# Altium footprint library VESC_6.PcbLib: 20 footprints (part 1 of 2)
Each footprint in its own frame and in the unit in brackets; x right, y up, seen from the top. Pads: shape width x height; smd on the part's side, far side on the other; paste and mask are expansions set on the pad; w line width, h text height; cw(c..) or ccw(c..) is an arc to the next point about the centre after c.
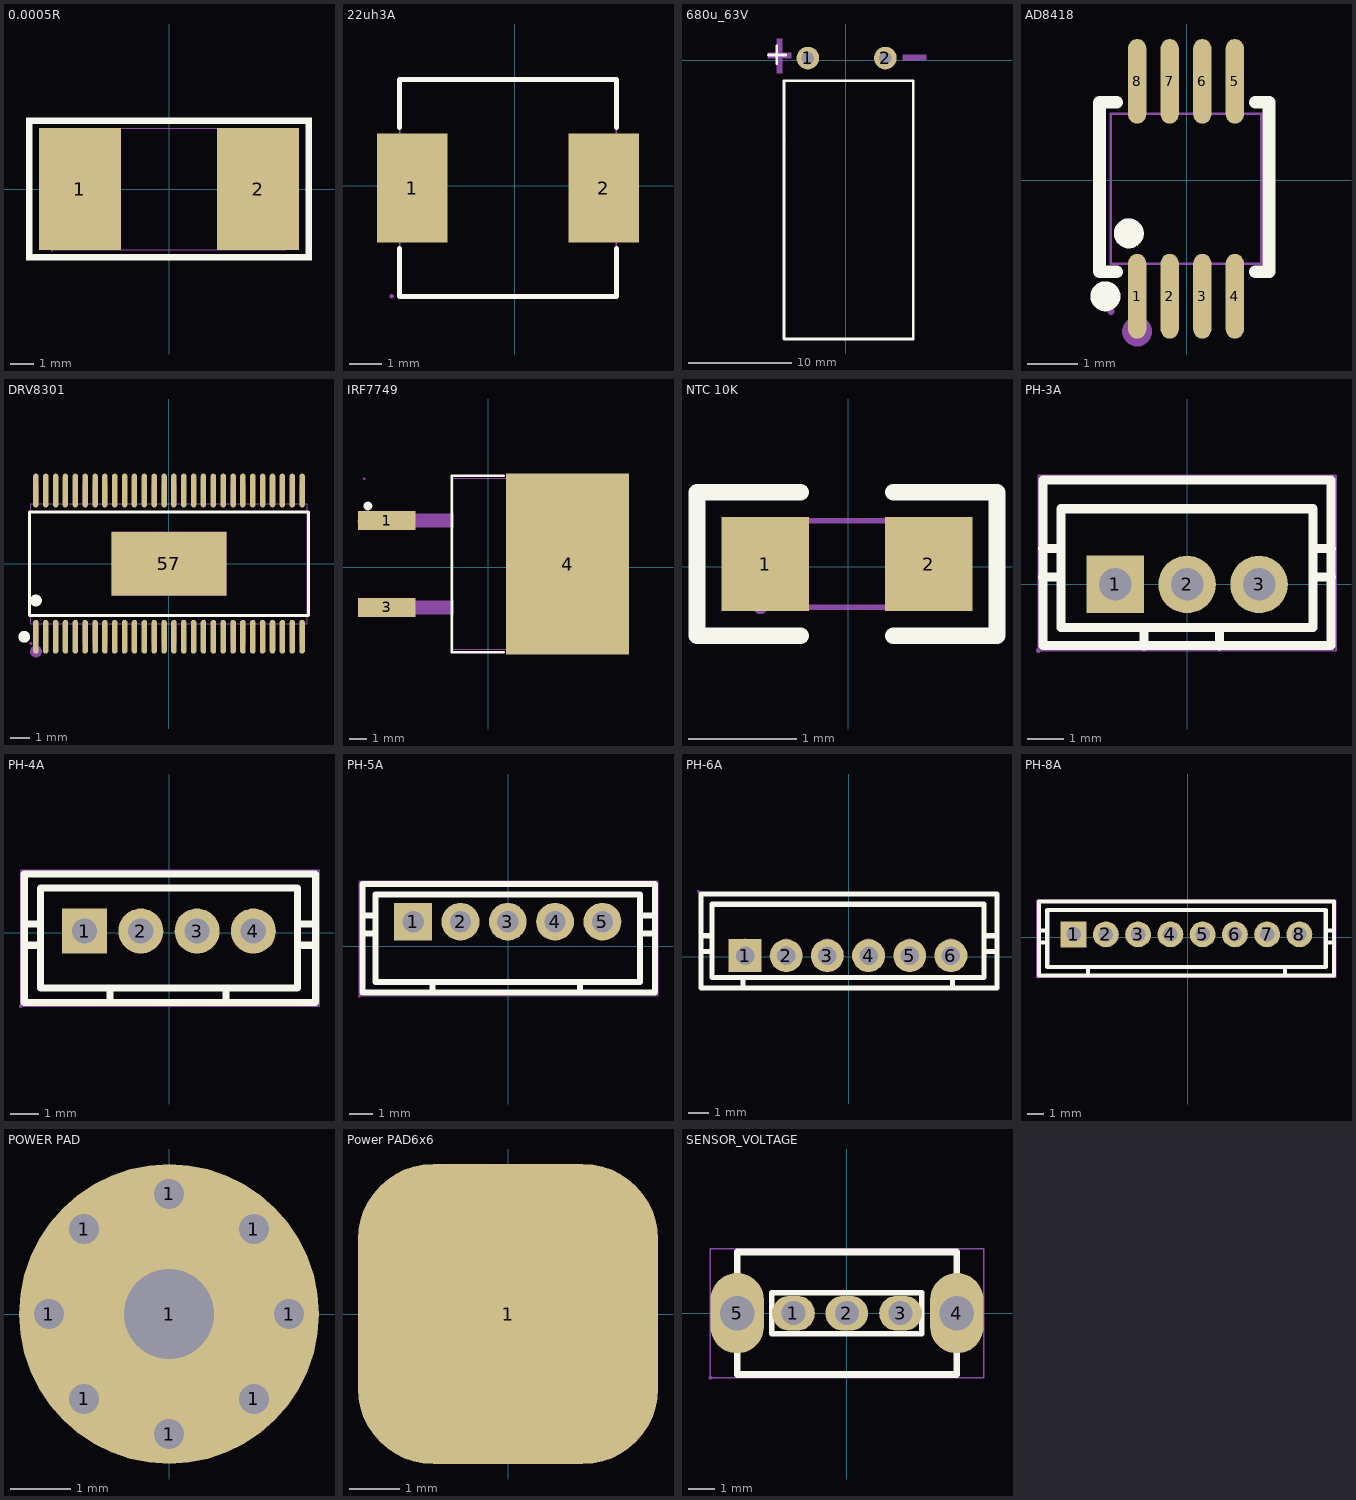
[diagram p0: the footprints below, top view; thin cyan lines are the x and y axes]

## 0.5mr [mil]

## 0.0005R [mm]
pads (2):
  rect 3.5x5.2 smd mask+0.051: 1(-3.81,0) 2(3.81,0)
Top Overlay:
  region: -6.096,-3.048 -6.096,3.048 -5.842,3.048 6.096,3.048 6.096,2.794 -5.842,2.794 -5.842,-3.048 -6.096,-3.048
  region: 6.096,3.048 6.096,-3.048 5.842,-3.048 5.842,2.794
  region: 5.842,-3.048 -5.842,-3.048 -5.842,-2.794 5.842,-2.794
Mechanical 15:
  region: -4.94,-2.6 -4.94,-2.575 -4.975,-2.54 -5.025,-2.54 -5.06,-2.575 -5.06,-2.6 -5.06,-2.625 -5.025,-2.66 -4.975,-2.66 -4.94,-2.625
  region: -5,2.6 -2.25,2.6 -2.25,-2.6 -5,-2.6
  region: 5,-2.6 2.25,-2.6 2.25,2.6 5,2.6
  lines w0.051: -5,-2.6 5,-2.6 5,2.6 -5,2.6 -5,-2.6

## 22uh3A [mm]
pads (2):
  rect 2.15x3.32 smd mask+0.051: 1(-3.116,-0.069) 2(2.71,-0.069)
Top Overlay:
  lines w0.152: -3.505,-1.909 -3.505,-3.371 3.099,-3.371 3.099,-1.909 ; -3.505,1.771 -3.505,3.233 3.099,3.233 3.099,1.771
Mechanical 15:
  region: -3.693,-3.369 -3.693,-3.344 -3.728,-3.309 -3.778,-3.309 -3.813,-3.344 -3.813,-3.369 -3.813,-3.394 -3.778,-3.429 -3.728,-3.429 -3.693,-3.394
  region: -3.753,1.431 -2.153,1.431 -2.153,-1.569 -3.753,-1.569
  region: 1.747,1.431 3.347,1.431 3.347,-1.569 1.747,-1.569
  lines w0.051: -3.503,-3.369 3.097,-3.369 3.097,3.231 -3.503,3.231 -3.503,-3.369

## 680u_63V [mm]
pads (2):
  round 2.2 hole 1.2 mask+0.051: 1(-3.691,0.186) 2(3.809,0.186)
Top Overlay:
  lines w0.254: -7.494,0.491 -5.818,0.491 ; -6.707,-0.348 -6.707,1.38 ; -6,-27 -6,-2 6.5,-2 6.5,-27 -6,-27
Mechanical 6:
  region: -7.561,0.694 -5.275,0.694 -5.275,0.186 -7.561,0.186
  region: -6.695,2.037 -6.187,2.037 -6.187,-1.265 -6.695,-1.265
  region: 7.759,-0.014 5.473,-0.014 5.473,0.494 7.759,0.494
Mechanical 15:
  region: -5.881,-7.814 -5.881,-7.789 -5.916,-7.754 -5.966,-7.754 -6.001,-7.789 -6.001,-7.814 -6.001,-7.839 -5.966,-7.874 -5.916,-7.874 -5.881,-7.839
  region: 4.209,0.186 4.209,0.265 4.148,0.412 4.036,0.525 3.889,0.586 3.729,0.586 3.582,0.525 3.47,0.412 3.409,0.265 3.409,0.186 3.409,0.106 3.47,-0.041 3.582,-0.153 3.729,-0.214 3.889,-0.214 4.036,-0.153 4.148,-0.041 4.209,0.106
  region: -3.291,0.186 -3.291,0.265 -3.352,0.412 -3.464,0.525 -3.611,0.586 -3.77,0.586 -3.917,0.525 -4.03,0.412 -4.091,0.265 -4.091,0.186 -4.091,0.106 -4.03,-0.041 -3.917,-0.153 -3.77,-0.214 -3.611,-0.214 -3.464,-0.153 -3.352,-0.041 -3.291,0.106

## AD8418 [mil]
pads (8):
  oval 14.3x66.6 smd mask+2: 1(-39.1,-91.4) 2(-13.5,-91.4) 3(12.1,-91.4) 4(37.7,-91.4) 5(37.7,77.6) 6(12.1,77.6) 7(-13.5,77.6) 8(-39.1,77.6)
Top Overlay:
  circle w11.8: c-64.1,-91.4 r5.9
  circle w11.8: c-45.7,-41.9 r5.9
  lines w10: -68.8,61 -68.8,-71.9 -68.5,-72.2 -55.4,-72.2 ; -68.3,60.4 -67.5,61.2 -55.4,61.2 ; 54,-72.2 64.6,-72.2 64.6,61.2 54,61.2
Mechanical 6:
  circle w11.8: c-39.1,-119.1 r5.9
Mechanical 15:
  region: 31.6,66.3 31.6,51.8 43.8,51.8 43.8,66.3
  region: 31.6,89.6 31.6,65.9 43.8,65.9 43.8,89.6
  region: 6,66.3 6,51.8 18.2,51.8 18.2,66.3
  region: 6,89.6 6,65.9 18.2,65.9 18.2,89.6
  region: -19.6,66.3 -19.6,51.8 -7.4,51.8 -7.4,66.3
  region: -19.6,89.6 -19.6,65.9 -7.4,65.9 -7.4,89.6
  region: -45.2,66.3 -45.2,51.8 -33,51.8 -33,66.3
  region: -45.2,89.6 -45.2,65.9 -33,65.9 -33,89.6
  region: 31.6,-80.1 31.6,-65.6 43.8,-65.6 43.8,-80.1
  region: 31.6,-103.4 31.6,-79.7 43.8,-79.7 43.8,-103.4
  region: 6,-80.1 6,-65.6 18.2,-65.6 18.2,-80.1
  region: 6,-103.4 6,-79.7 18.2,-79.7 18.2,-103.4
  region: -19.6,-80.1 -19.6,-65.6 -7.4,-65.6 -7.4,-80.1
  region: -19.6,-103.4 -19.6,-79.7 -7.4,-79.7 -7.4,-103.4
  region: -45.2,-80.1 -45.2,-65.6 -33,-65.6 -33,-80.1
  region: -45.2,-103.4 -45.2,-79.7 -33,-79.7 -33,-103.4
  region: -57.3,-103.4 -57.3,-102.41 -58.71,-101 -60.69,-101 -62.1,-102.41 -62.1,-103.4 -62.1,-104.39 -60.69,-105.8 -58.71,-105.8 -57.3,-104.39
  lines w2: -59.8,-66 58.4,-66 58.4,52.2 -59.8,52.2 -59.8,-66

## DRV8301 [mil]
pads (57):
  oval 11x67.5 smd mask+2: 1(-265.7,-146) 2(-246.1,-146) 3(-226.4,-146) 4(-206.7,-146) 5(-187,-146) 6(-167.3,-146) 7(-147.6,-146) 8(-127.9,-146) 9(-108.3,-146) 10(-88.6,-146) 11(-68.9,-146) 12(-49.2,-146) 13(-29.5,-146) 14(-9.8,-146) 15(9.8,-146) 16(29.5,-146) 17(49.2,-146) 18(68.9,-146) 19(88.6,-146) 20(108.3,-146) 21(128,-146) 22(147.6,-146) 23(167.3,-146) 24(187,-146) 25(206.7,-146) 26(226.4,-146) 27(246.1,-146) 28(265.8,-146) 29(265.8,146) 30(246.1,146) 31(226.4,146) 32(206.7,146) 33(187,146) 34(167.3,146) 35(147.6,146) 36(128,146) 37(108.3,146) 38(88.6,146) 39(68.9,146) 40(49.2,146) 41(29.5,146) 42(9.8,146) 43(-9.8,146) 44(-29.5,146) 45(-49.2,146) 46(-68.9,146) 47(-88.6,146) 48(-108.3,146) 49(-127.9,146) 50(-147.6,146) 51(-167.3,146) 52(-187,146) 53(-206.7,146) 54(-226.4,146) 55(-246.1,146) 56(-265.7,146)
  rect 229.3x127.4 smd mask+2: 57(0,0)
Top Overlay:
  circle w11.8: c-289.1,-146 r5.9
  circle w11.8: c-265.7,-73.6 r5.9
  lines w6: -278.6,-103.2 278.6,-103.2 278.6,103.2 -278.6,103.2 -278.6,-103.2
Mechanical 6:
  circle w11.8: c-265.7,-175.2 r5.9
Mechanical 15:
  drawing of 118 lines, arcs and shapes, not listed

## IRF7749 [mil]
pads (3):
  rect 132.23x44.65 smd mask+2: 1(-233.89,108) 3(-233.89,-92)
  rect 282.7x416 smd mask+2: 4(182.32,8)
Top Overlay:
  circle w10: c-277.15,141.38 r5
  lines w6: 34.97,-195 -84.08,-195 -84.08,211 34.97,211
Mechanical 6:
  circle w10: c-291.23,106.08 r5
Mechanical 15:
  region: -283.33,204.19 -283.33,205.17 -284.71,206.55 -286.67,206.55 -288.05,205.17 -288.05,204.19 -288.05,203.21 -286.67,201.83 -284.71,201.83 -283.33,203.21
  region: -286.87,92.06 -286.87,123.94 -186.87,123.94 -186.87,92.06
  region: -187.56,92.06 -187.56,123.94 -80.08,123.94 -80.08,92.06
  region: -286.87,-107.94 -286.87,-76.06 -186.87,-76.06 -186.87,-107.94
  region: -187.56,-107.94 -187.56,-76.06 -80.08,-76.06 -80.08,-107.94
  region: 40.97,-192 40.97,208 271.44,208 311.44,168 311.44,-152 271.44,-192
  lines w2: -80.52,-188.33 -80.52,205.37 277.75,205.37 277.75,-188.33 -80.52,-188.33

## NTC 10K [mil]
pads (2):
  rect 31.75x34.02 smd mask+2: 1(-30.13,1.01) 2(29.19,1.01)
Top Overlay:
  lines w6: -17.25,-25 -55,-25 -55,27.02 -17.25,27.02 ; 16.31,-25 54.06,-25 54.06,27.02 16.31,27.02
Top Paste:
  region: 46.58,18.72 15.08,18.72 13.11,16.75 13.11,7.78 27.68,7.78 27.68,-5.21 13.11,-5.21 13.11,-14.74 15.08,-16.71 46.58,-16.71 48.55,-14.74 48.55,16.75
  region: -14.45,16.75 -14.45,7.78 -29.41,7.78 -29.41,-5.21 -14.45,-5.21 -14.45,-14.74 -16.41,-16.71 -47.52,-16.71 -49.48,-14.74 -49.48,16.75 -47.52,18.72 -16.41,18.72
Mechanical 15:
  region: -29.6,-14.74 -29.6,-13.76 -30.99,-12.38 -32.94,-12.38 -34.33,-13.76 -34.33,-14.74 -34.33,-15.72 -32.94,-17.1 -30.99,-17.1 -29.6,-15.72
  region: -31.96,-14.74 -31.96,16.76 -20.15,16.76 -20.15,-14.74
  region: 31.03,-14.74 31.03,16.76 19.22,16.76 19.22,-14.74
  lines w2: -31.96,-14.74 -31.96,16.76 31.03,16.76 31.03,-14.74 -31.96,-14.74

## PH-3A [mil]
pads (3):
  rect 63x63 hole 35.4 mask+2: 1(-78.7,0)
  round 63 hole 35.4 mask+2: 2(0,0) 3(78.7,0)
Top Overlay:
  lines w10: -157.8,7.9 -137.8,7.9 ; -157.8,39.4 -137.8,39.4 ; -47.2,-67.2 -47.2,-47.2 ; 35.4,-67.2 35.4,-47.2 ; 137.8,7.9 157.8,7.9 ; 137.8,39.4 157.8,39.4 ; -157.5,-66.9 157.5,-66.9 157.5,114.2 -157.5,114.2 -157.5,-66.9 ; -137.8,-47.2 137.8,-47.2 137.8,82.7 -137.8,82.7 -137.8,-47.2
Mechanical 15:
  region: 92.5,0 92.5,2.74 90.4,7.82 86.52,11.7 81.44,13.8 75.95,13.8 70.88,11.7 67,7.82 64.9,2.74 64.9,0 64.9,-2.74 67,-7.82 70.88,-11.7 75.95,-13.8 81.44,-13.8 86.52,-11.7 90.4,-7.82 92.5,-2.74
  region: 13.8,0 13.8,2.74 11.7,7.82 7.82,11.7 2.74,13.8 -2.74,13.8 -7.82,11.7 -11.7,7.82 -13.8,2.74 -13.8,0 -13.8,-2.74 -11.7,-7.82 -7.82,-11.7 -2.74,-13.8 2.74,-13.8 7.82,-11.7 11.7,-7.82 13.8,-2.74
  region: -64.9,0 -64.9,2.74 -67,7.82 -70.88,11.7 -75.95,13.8 -81.44,13.8 -86.52,11.7 -90.4,7.82 -92.5,2.74 -92.5,0 -92.5,-2.74 -90.4,-7.82 -86.52,-11.7 -81.44,-13.8 -75.95,-13.8 -70.88,-11.7 -67,-7.82 -64.9,-2.74
  region: -160.4,-72.2 -160.4,-71.21 -161.81,-69.8 -163.79,-69.8 -165.2,-71.21 -165.2,-72.2 -165.2,-73.19 -163.79,-74.6 -161.81,-74.6 -160.4,-73.19
  lines w2: -162.8,-72.2 162.8,-72.2 162.8,119.2 -162.8,119.2 -162.8,-72.2

## PH-4A [mm]
pads (4):
  rect 1.6x1.6 hole 0.9 mask+0.051: 1(-3.003,0.06)
  round 1.6 hole 0.9 mask+0.051: 2(-1.003,0.06) 3(0.997,0.06) 4(2.997,0.06)
Top Overlay:
  lines w0.254: -5.147,-0.448 -4.639,-0.448 ; -5.147,0.06 -5.147,2.092 5.141,2.092 ; -4.639,0.314 -5.147,0.314 -5.147,-2.48 5.141,-2.48 ; -2.099,-2.48 -2.099,-1.972 ; 2.029,-2.48 2.029,-1.972 ; 4.569,-0.448 5.077,-0.448 ; 4.569,0.314 5.077,0.314 ; 5.204,-2.48 5.204,2.092 ; -4.575,-1.972 4.569,-1.972 4.569,1.584 -4.575,1.584 -4.575,-1.972
Mechanical 15:
  region: -5.214,-2.607 -5.214,-2.582 -5.249,-2.547 -5.299,-2.547 -5.334,-2.582 -5.334,-2.607 -5.334,-2.632 -5.299,-2.667 -5.249,-2.667 -5.214,-2.632
  region: 3.347,0.06 3.347,0.13 3.294,0.258 3.195,0.357 3.067,0.41 2.927,0.41 2.799,0.357 2.7,0.258 2.647,0.13 2.647,0.06 2.647,-0.01 2.7,-0.138 2.799,-0.237 2.927,-0.29 3.067,-0.29 3.195,-0.237 3.294,-0.138 3.347,-0.01
  region: 1.347,0.06 1.347,0.13 1.294,0.258 1.195,0.357 1.067,0.41 0.927,0.41 0.799,0.357 0.7,0.258 0.647,0.13 0.647,0.06 0.647,-0.01 0.7,-0.138 0.799,-0.237 0.927,-0.29 1.067,-0.29 1.195,-0.237 1.294,-0.138 1.347,-0.01
  region: -0.653,0.06 -0.653,0.13 -0.706,0.258 -0.805,0.357 -0.933,0.41 -1.073,0.41 -1.201,0.357 -1.3,0.258 -1.353,0.13 -1.353,0.06 -1.353,-0.01 -1.3,-0.138 -1.201,-0.237 -1.073,-0.29 -0.933,-0.29 -0.805,-0.237 -0.706,-0.138 -0.653,-0.01
  region: -2.653,0.06 -2.653,0.13 -2.706,0.258 -2.805,0.357 -2.933,0.41 -3.073,0.41 -3.201,0.357 -3.3,0.258 -3.353,0.13 -3.353,0.06 -3.353,-0.01 -3.3,-0.138 -3.201,-0.237 -3.073,-0.29 -2.933,-0.29 -2.805,-0.237 -2.706,-0.138 -2.653,-0.01
  lines w0.051: -5.274,-2.607 5.331,-2.607 5.331,2.219 -5.274,2.219 -5.274,-2.607

## PH-5A [mil]
pads (5):
  rect 63x63 hole 35.4 mask+2: 1(-158.2,40.5)
  round 63 hole 35.4 mask+2: 2(-79.4,40.5) 3(-0.7,40.5) 4(78,40.5) 5(156.8,40.5)
Top Overlay:
  lines w10: -242.6,-77.6 244.3,-77.6 244.3,103.5 -242.6,103.5 -242.6,-74.5 ; -242.6,-59.5 -242.6,50.5 -222.6,50.5 ; -242.6,20.5 -222.6,20.5 ; -125.7,-77.6 -125.7,-59.5 ; 119.3,-77.6 119.3,-59.5 ; 219.3,20.5 239.3,20.5 ; 219.3,50.5 239.3,50.5 ; -220.7,-59.5 219.3,-59.5 219.3,85.5 -220.7,85.5 -220.7,-59.5
Mechanical 15:
  region: -245.2,-82.6 -245.2,-81.61 -246.61,-80.2 -248.59,-80.2 -250,-81.61 -250,-82.6 -250,-83.59 -248.59,-85 -246.61,-85 -245.2,-83.59
  region: 170.6,40.5 170.6,43.24 168.5,48.32 164.62,52.2 159.54,54.3 154.06,54.3 148.98,52.2 145.1,48.32 143,43.24 143,40.5 143,37.76 145.1,32.68 148.98,28.8 154.06,26.7 159.54,26.7 164.62,28.8 168.5,32.68 170.6,37.76
  region: 91.8,40.5 91.8,43.24 89.7,48.32 85.82,52.2 80.74,54.3 75.25,54.3 70.18,52.2 66.3,48.32 64.2,43.24 64.2,40.5 64.2,37.76 66.3,32.68 70.18,28.8 75.25,26.7 80.74,26.7 85.82,28.8 89.7,32.68 91.8,37.76
  region: 13.1,40.5 13.1,43.24 11,48.32 7.12,52.2 2.04,54.3 -3.44,54.3 -8.52,52.2 -12.4,48.32 -14.5,43.24 -14.5,40.5 -14.5,37.76 -12.4,32.68 -8.52,28.8 -3.44,26.7 2.04,26.7 7.12,28.8 11,32.68 13.1,37.76
  region: -65.6,40.5 -65.6,43.24 -67.7,48.32 -71.58,52.2 -76.66,54.3 -82.14,54.3 -87.22,52.2 -91.1,48.32 -93.2,43.24 -93.2,40.5 -93.2,37.76 -91.1,32.68 -87.22,28.8 -82.14,26.7 -76.66,26.7 -71.58,28.8 -67.7,32.68 -65.6,37.76
  region: -144.4,40.5 -144.4,43.24 -146.5,48.32 -150.38,52.2 -155.46,54.3 -160.94,54.3 -166.02,52.2 -169.9,48.32 -172,43.24 -172,40.5 -172,37.76 -169.9,32.68 -166.02,28.8 -160.94,26.7 -155.46,26.7 -150.38,28.8 -146.5,32.68 -144.4,37.76
  lines w2: -247.6,-82.6 249.3,-82.6 249.3,108.5 -247.6,108.5 -247.6,-82.6

## PH-6A [mil]
pads (6):
  rect 63x63 hole 35.4 mask+2: 1(-198.1,1.9)
  round 63 hole 35.4 mask+2: 2(-119.4,1.9) 3(-40.7,1.9) 4(38.1,1.9) 5(116.8,1.9) 6(195.6,1.9)
Top Overlay:
  lines w10: -282.6,20 -282.6,-60 280,-60 ; -282.6,40 -262.6,40 ; -262.6,10 -282.6,10 -282.6,120 280,120 ; -202.1,-60 -202.1,-40 ; 198.6,-60 198.6,-40 ; 258.6,10 278.6,10 ; 258.6,40 278.6,40 ; 283.7,-60 283.7,120 ; -261.3,-40 258.7,-40 258.7,100 -261.3,100 -261.3,-40
Mechanical 15:
  region: -285.2,125 -285.2,125.99 -286.61,127.4 -288.59,127.4 -290,125.99 -290,125 -290,124.01 -288.59,122.6 -286.61,122.6 -285.2,124.01
  region: 209.4,20 209.4,22.74 207.3,27.82 203.42,31.7 198.34,33.8 192.85,33.8 187.78,31.7 183.9,27.82 181.8,22.74 181.8,20 181.8,17.25 183.9,12.18 187.78,8.3 192.85,6.2 198.34,6.2 203.42,8.3 207.3,12.18 209.4,17.25
  region: 130.6,20 130.6,22.74 128.5,27.82 124.62,31.7 119.54,33.8 114.06,33.8 108.98,31.7 105.1,27.82 103,22.74 103,20 103,17.25 105.1,12.18 108.98,8.3 114.06,6.2 119.54,6.2 124.62,8.3 128.5,12.18 130.6,17.25
  region: 51.9,20 51.9,22.74 49.8,27.82 45.92,31.7 40.84,33.8 35.35,33.8 30.28,31.7 26.4,27.82 24.3,22.74 24.3,20 24.3,17.25 26.4,12.18 30.28,8.3 35.35,6.2 40.84,6.2 45.92,8.3 49.8,12.18 51.9,17.25
  region: -26.9,20 -26.9,22.74 -29,27.82 -32.88,31.7 -37.95,33.8 -43.44,33.8 -48.52,31.7 -52.4,27.82 -54.5,22.74 -54.5,20 -54.5,17.25 -52.4,12.18 -48.52,8.3 -43.44,6.2 -37.95,6.2 -32.88,8.3 -29,12.18 -26.9,17.25
  region: -105.6,20 -105.6,22.74 -107.7,27.82 -111.58,31.7 -116.66,33.8 -122.14,33.8 -127.22,31.7 -131.1,27.82 -133.2,22.74 -133.2,20 -133.2,17.25 -131.1,12.18 -127.22,8.3 -122.14,6.2 -116.66,6.2 -111.58,8.3 -107.7,12.18 -105.6,17.25
  region: -184.3,20 -184.3,22.74 -186.4,27.82 -190.28,31.7 -195.35,33.8 -200.84,33.8 -205.92,31.7 -209.8,27.82 -211.9,22.74 -211.9,20 -211.9,17.25 -209.8,12.18 -205.92,8.3 -200.84,6.2 -195.35,6.2 -190.28,8.3 -186.4,12.18 -184.3,17.25

## PH-8A [mil]
pads (8):
  rect 63x63 hole 35.4 mask+2: 1(-278.2,7.4)
  round 63 hole 35.4 mask+2: 2(-199.4,7.4) 3(-120.7,7.4) 4(-42,7.4) 5(36.8,7.4) 6(115.5,7.4) 7(194.3,7.4) 8(273,7.4)
Top Overlay:
  lines w10: -362.6,-12.6 -342.6,-12.6 ; -362.6,7.4 -362.6,87.4 357.4,87.4 357.4,-92.6 -362.6,-92.6 -362.6,17.4 -342.6,17.4 ; -242.6,-92.6 -242.6,-72.6 ; 237.4,-92.6 237.4,-72.6 ; 337.4,-12.6 357.4,-12.6 ; 337.4,17.4 357.4,17.4 ; -342.6,-72.6 -342.6,67.4 337.4,67.4 337.4,-72.6 -342.6,-72.6
Mechanical 15:
  drawing of 13 lines, arcs and shapes, not listed

## POWER PAD [mm]
pads (9):
  round 0.5 hole 0.5: 1(-2,0) 1(-1.414,-1.414) 1(-1.414,1.414) 1(0,-2) 1(0,2) 1(1.414,-1.414) 1(1.414,1.414) 1(2,0)
  round 5 hole 1.5: 1(0,0)

## Power PAD6x6 [mm]
pads (1):
  rrect50% 6x6 smd: 1(0,0)

## SENSOR_VOLTAGE [mil]
pads (5):
  oval 63x51.2 hole 35.4 mask+2: 1(-78.4,0) 2(0,0) 3(79,0)
  oval 78.7x118.1 hole 51.2 mask+2: 4(161.7,0) 5(-161.1,0)
Top Overlay:
  lines w8: -110,-30 -70,-30 70,-30 110,-30 110,30 70,30 -70,30 -110,30 -110,-30
  lines w10: -161.1,-90 -161.1,90 ; -159.7,-90 0.3,-90 160.3,-90 ; -159.7,90 0.3,90 160.3,90 ; 161.7,-90 161.7,90
Mechanical 15:
  region: -198.1,-95 -198.1,-94.01 -199.51,-92.6 -201.49,-92.6 -202.9,-94.01 -202.9,-95 -202.9,-95.99 -201.49,-97.4 -199.51,-97.4 -198.1,-95.99
  region: -139.4,0 -139.4,4.32 -142.7,12.29 -148.81,18.4 -156.78,21.7 -165.42,21.7 -173.39,18.4 -179.5,12.29 -182.8,4.32 -182.8,0 -182.8,-4.32 -179.5,-12.29 -173.39,-18.4 -165.42,-21.7 -156.78,-21.7 -148.81,-18.4 -142.7,-12.29 -139.4,-4.32
  region: 183.4,0 183.4,4.32 180.1,12.29 173.99,18.4 166.02,21.7 157.38,21.7 149.41,18.4 143.3,12.29 140,4.32 140,0 140,-4.32 143.3,-12.29 149.41,-18.4 157.38,-21.7 166.02,-21.7 173.99,-18.4 180.1,-12.29 183.4,-4.32
  region: 13.8,0 13.8,2.74 11.7,7.82 7.82,11.7 2.74,13.8 -2.74,13.8 -7.82,11.7 -11.7,7.82 -13.8,2.74 -13.8,0 -13.8,-2.74 -11.7,-7.82 -7.82,-11.7 -2.74,-13.8 2.74,-13.8 7.82,-11.7 11.7,-7.82 13.8,-2.74
  region: 92.8,0 92.8,2.74 90.7,7.82 86.82,11.7 81.74,13.8 76.25,13.8 71.18,11.7 67.3,7.82 65.2,2.74 65.2,0 65.2,-2.74 67.3,-7.82 71.18,-11.7 76.25,-13.8 81.74,-13.8 86.82,-11.7 90.7,-7.82 92.8,-2.74
  region: -64.6,0 -64.6,2.74 -66.7,7.82 -70.58,11.7 -75.66,13.8 -81.14,13.8 -86.22,11.7 -90.1,7.82 -92.2,2.74 -92.2,0 -92.2,-2.74 -90.1,-7.82 -86.22,-11.7 -81.14,-13.8 -75.66,-13.8 -70.58,-11.7 -66.7,-7.82 -64.6,-2.74
  lines w2: -200.5,-95 -200.5,95 201.1,95 201.1,-95 -200.5,-95